# EAGLE library part CON-FFC-40 (library added_parts)
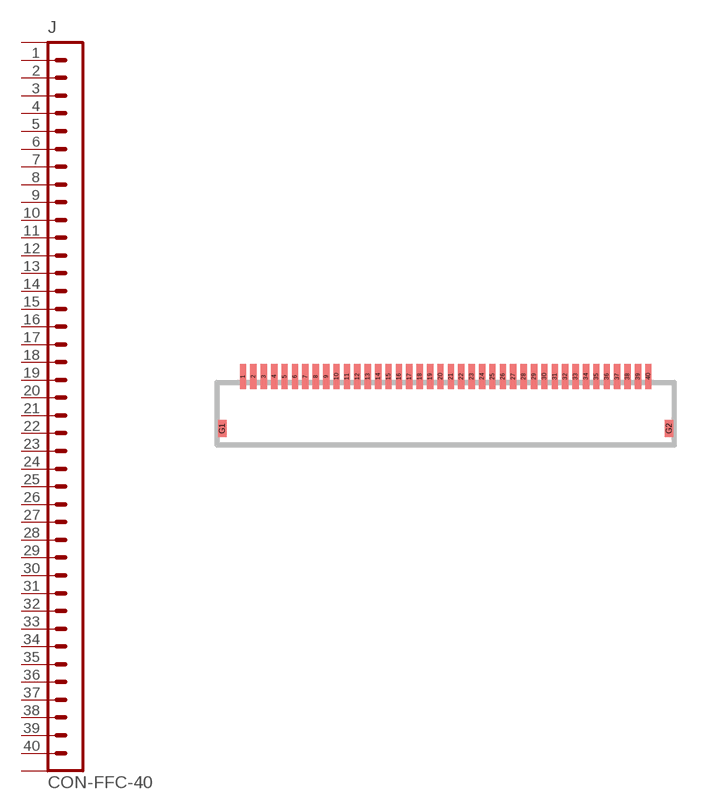
[diagram p16: symbol with the pads of CON-FFC-40; footprint CON-FFC-40]

Designator prefix J

## CON-FFC-40  [CON-FFC-40]
1  1  pas
2  2  pas
3  3  pas
4  4  pas
5  5  pas
6  6  pas
7  7  pas
8  8  pas
9  9  pas
10  10  pas
11  11  pas
12  12  pas
13  13  pas
14  14  pas
15  15  pas
16  16  pas
17  17  pas
18  18  pas
19  19  pas
20  20  pas
21  21  pas
22  22  pas
23  23  pas
24  24  pas
25  25  pas
26  26  pas
27  27  pas
28  28  pas
29  29  pas
30  30  pas
31  31  pas
32  32  pas
33  33  pas
34  34  pas
35  35  pas
36  36  pas
37  37  pas
38  38  pas
39  39  pas
40  40  pas
G1  P$2  pas
G2  P$3  pas

## Footprint CON-FFC-40 (pad centres in mm)
smd 0.3 x 1.2: 1 -9.67,1.8; 2 -9.17,1.8; 3 -8.67,1.8; 4 -8.17,1.8; 5 -7.67,1.8; 6 -7.17,1.8; 7 -6.67,1.8; 8 -6.17,1.8; 9 -5.67,1.8; 10 -5.17,1.8; 11 -4.67,1.8; 12 -4.17,1.8; 13 -3.67,1.8; 14 -3.17,1.8; 15 -2.67,1.8; 16 -2.17,1.8; 17 -1.67,1.8; 18 -1.17,1.8; 19 -0.67,1.8; 20 -0.17,1.8; 21 0.33,1.8; 22 0.83,1.8; 23 1.33,1.8; 24 1.83,1.8; 25 2.33,1.8; 26 2.83,1.8; 27 3.33,1.8; 28 3.83,1.8; 29 4.33,1.8; 30 4.83,1.8; 31 5.33,1.8; 32 5.83,1.8; 33 6.33,1.8; 34 6.83,1.8; 35 7.33,1.8; 36 7.83,1.8; 37 8.33,1.8; 38 8.83,1.8; 39 9.33,1.8; 40 9.83,1.8
smd 0.4 x 0.8: G1 -10.67,-0.7; G2 10.83,-0.7